# EAGLE library part FT2232HQ (library booz)
Dual High Speed USB to multipurpose UART/FIFO
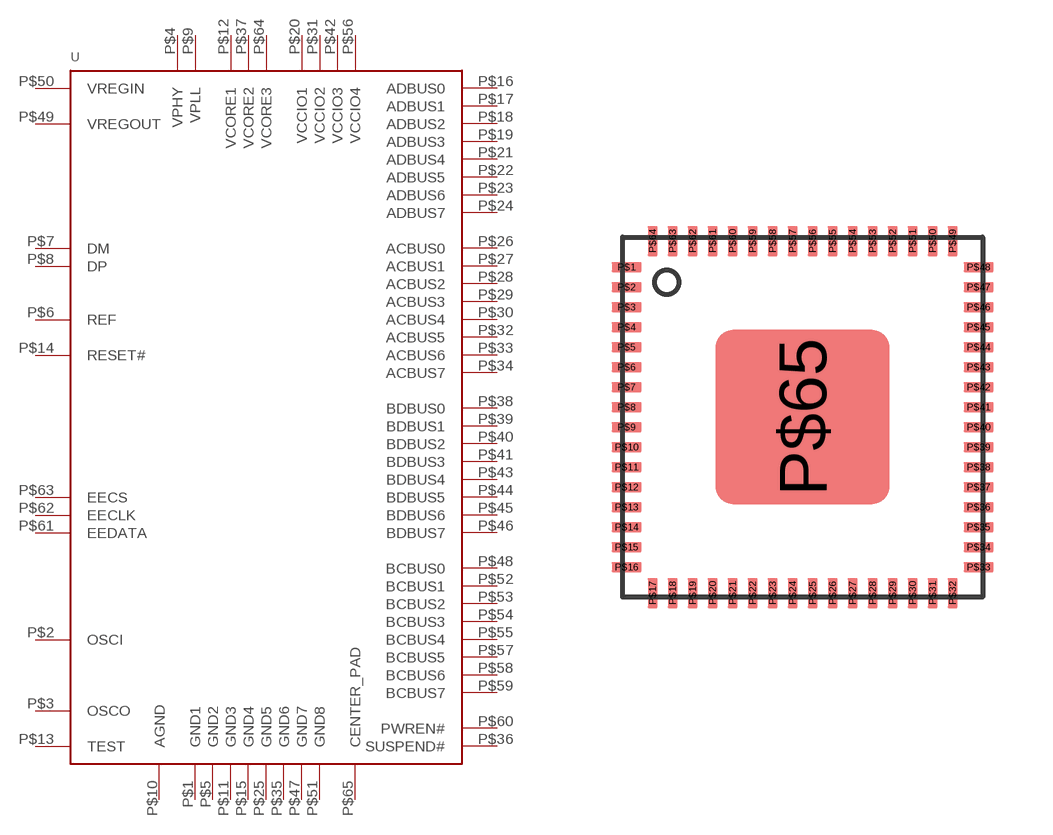
[diagram p11: symbol with the pads of QFN64; footprint QFN64]

Designator prefix -

## FT2232HQ  [QFN64]
P$1  GND1
P$2  OSCI
P$3  OSCO
P$4  VPHY
P$5  GND2
P$6  REF
P$7  DM
P$8  DP
P$9  VPLL
P$10  AGND
P$11  GND3
P$12  VCORE1
P$13  TEST
P$14  RESET#
P$15  GND4
P$16  ADBUS0
P$17  ADBUS1
P$18  ADBUS2
P$19  ADBUS3
P$20  VCCIO1
P$21  ADBUS4
P$22  ADBUS5
P$23  ADBUS6
P$24  ADBUS7
P$25  GND5
P$26  ACBUS0
P$27  ACBUS1
P$28  ACBUS2
P$29  ACBUS3
P$30  ACBUS4
P$31  VCCIO2
P$32  ACBUS5
P$33  ACBUS6
P$34  ACBUS7
P$35  GND6
P$36  SUSPEND#
P$37  VCORE2
P$38  BDBUS0
P$39  BDBUS1
P$40  BDBUS2
P$41  BDBUS3
P$42  VCCIO3
P$43  BDBUS4
P$44  BDBUS5
P$45  BDBUS6
P$46  BDBUS7
P$47  GND7
P$48  BCBUS0
P$49  VREGOUT
P$50  VREGIN
P$51  GND8
P$52  BCBUS1
P$53  BCBUS2
P$54  BCBUS3
P$55  BCBUS4
P$56  VCCIO4
P$57  BCBUS5
P$58  BCBUS6
P$59  BCBUS7
P$60  PWREN#
P$61  EEDATA
P$62  EECLK
P$63  EECS
P$64  VCORE3
P$65  CENTER_PAD

## Footprint QFN64 (pad centres in mm)
smd 0.75 x 0.25: P$1 -4.4,3.75; P$2 -4.4,3.25; P$3 -4.4,2.75; P$4 -4.4,2.25; P$5 -4.4,1.75; P$6 -4.4,1.25; P$7 -4.4,0.75; P$8 -4.4,0.25; P$9 -4.4,-0.25; P$10 -4.4,-0.75; P$11 -4.4,-1.25; P$12 -4.4,-1.75; P$13 -4.4,-2.25; P$14 -4.4,-2.75; P$15 -4.4,-3.25; P$16 -4.4,-3.75; P$33 4.4,-3.75; P$34 4.4,-3.25; P$35 4.4,-2.75; P$36 4.4,-2.25; P$37 4.4,-1.75; P$38 4.4,-1.25; P$39 4.4,-0.75; P$40 4.4,-0.25; P$41 4.4,0.25; P$42 4.4,0.75; P$43 4.4,1.25; P$44 4.4,1.75; P$45 4.4,2.25; P$46 4.4,2.75; P$47 4.4,3.25; P$48 4.4,3.75
smd 0.25 x 0.75: P$17 -3.75,-4.4; P$18 -3.25,-4.4; P$19 -2.75,-4.4; P$20 -2.25,-4.4; P$21 -1.75,-4.4; P$22 -1.25,-4.4; P$23 -0.75,-4.4; P$24 -0.25,-4.4; P$25 0.25,-4.4; P$26 0.75,-4.4; P$27 1.25,-4.4; P$28 1.75,-4.4; P$29 2.25,-4.4; P$30 2.75,-4.4; P$31 3.25,-4.4; P$32 3.75,-4.4; P$49 3.75,4.4; P$50 3.25,4.4; P$51 2.75,4.4; P$52 2.25,4.4; P$53 1.75,4.4; P$54 1.25,4.4; P$55 0.75,4.4; P$56 0.25,4.4; P$57 -0.25,4.4; P$58 -0.75,4.4; P$59 -1.25,4.4; P$60 -1.75,4.4; P$61 -2.25,4.4; P$62 -2.75,4.4; P$63 -3.25,4.4; P$64 -3.75,4.4
smd 4.35 x 4.35: P$65 0,0